# Altium schematic symbol library 05E_Relay.SchLib: 3 symbols
Pins are listed as number, name and electrical type; pins without a type are passive.

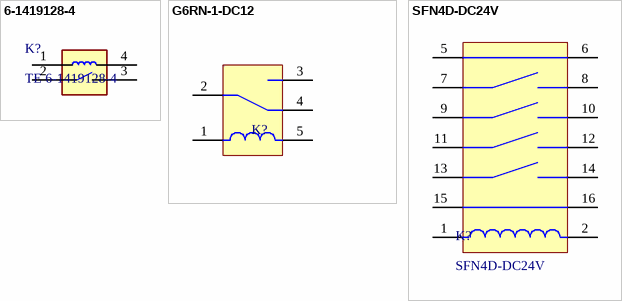
[diagram p0: symbols 6-1419128-4 to SFN4D-DC24V]

## 6-1419128-4
designator K?, comment TE 6-1419128-4
TE 6-1419128-4 24VDC; Manufacturer_Name: TE Connectivity; Datasheet Link: https://datasheet.datasheetarchive.com/originals/distributors/Datasheets-DGA17/903207.pdf; Height: 15.2mm; Manufacturer_Part_Number: 6-1419128-4; Mouser Part Number: 655-6-1419128-4; Mouser Price/Stock: https://www.mouser.co.uk/ProductDetail/TE-Connectivity-OEG/6-1419128-4?qs=BvX5c6aGLbDM7YdRm%252BLqbQ%3D%3D
footprint 6-1419128-4
pins: 1 COIL_1, 2 COM, 3 NO, 4 COIL_2

## G6RN-1-DC12
designator K?
General Purpose Relays Heavy-Duty SPDT 12VDC; Manufacturer_Name: Omron Electronics; Mouser Part Number: 653-G6RN-1-DC12; Mouser Price/Stock: https://www.mouser.co.uk/ProductDetail/Omron-Electronics/G6RN-1-DC12?qs=Rh%252BaoYk36r7x8drXOLDa9A%3D%3D; Manufacturer_Part_Number: G6RN-1-DC12; Datasheet Link: https://omronfs.omron.com/en_US/ecb/products/pdf/en-g6rn.pdf; Supplier 1: Mouser; Supplier 2: Digi-Key; Supplier Part Number 2: Z988-ND; Supplier Part Number 1: 653-G6RN-1-DC12
footprint G6RN-1-DCxx
pins: 1 COIL_1, 2 COM, 3 NO, 4 NC, 5 COIL_2

## SFN4D-DC24V
designator K?
Relay or Contactor; Manufacturer_Name: Panasonic; Datasheet Link: https://media.digikey.com/pdf/Data%20Sheets/Panasonic%20Electric%20Works%20PDFs/SFN4D_Series.pdf; Height: 14.8mm; Manufacturer_Part_Number: SFN4D-DC24V; Supplier 1: Mouser; Supplier 2: Rs; Supplier Part Number 2: 1738962; Supplier Part Number 1: 769-SFN4D-DC24V
footprint SFN4D-DCxxV
pins: 1 COIL_1, 2 COIL_2, 5 NC_1, 6 COM_1, 7 NO_1, 8 COM_2, 9 NO_2, 10 COM_3, 11 COM_4, 12 NO_3, 13 COM_5, 14 NO_4, 15 COM_6, 16 NC_2